# EAGLE library part XBEE (library slom)
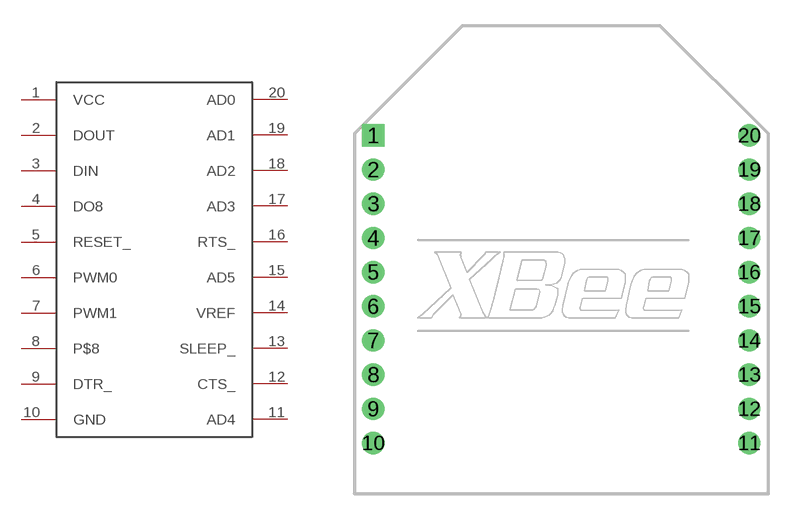
[diagram p1: symbol with the pads of XBEE; footprint XBEE]

Designator prefix -

## XBEE  [XBEE]
1  VCC
2  DOUT
3  DIN
4  DO8
5  RESET_
6  PWM0
7  PWM1
8  P$8
9  DTR_
10  GND
11  AD4
12  CTS_
13  SLEEP_
14  VREF
15  AD5
16  RTS_
17  AD3
18  AD2
19  AD1
20  AD0

## Footprint XBEE (pad centres in mm)
drill 0.7 pad 1.3 square: 1 -11,9
drill 0.7 pad 1.3 round: 2 -11,7; 3 -11,5; 4 -11,3; 5 -11,1; 6 -11,-1; 7 -11,-3; 8 -11,-5; 9 -11,-7; 10 -11,-9; 11 11,-9; 12 11,-7; 13 11,-5; 14 11,-3; 15 11,-1; 16 11,1; 17 11,3; 18 11,5; 19 11,7; 20 11,9